# Altium footprint library VESC_6.4.1.PcbLib: 21 footprints (part 1 of 2)
Each footprint in its own frame and in the unit in brackets; x right, y up, seen from the top. Pads: shape width x height; smd on the part's side, far side on the other; paste and mask are expansions set on the pad; w line width, h text height; cw(c..) or ccw(c..) is an arc to the next point about the centre after c.
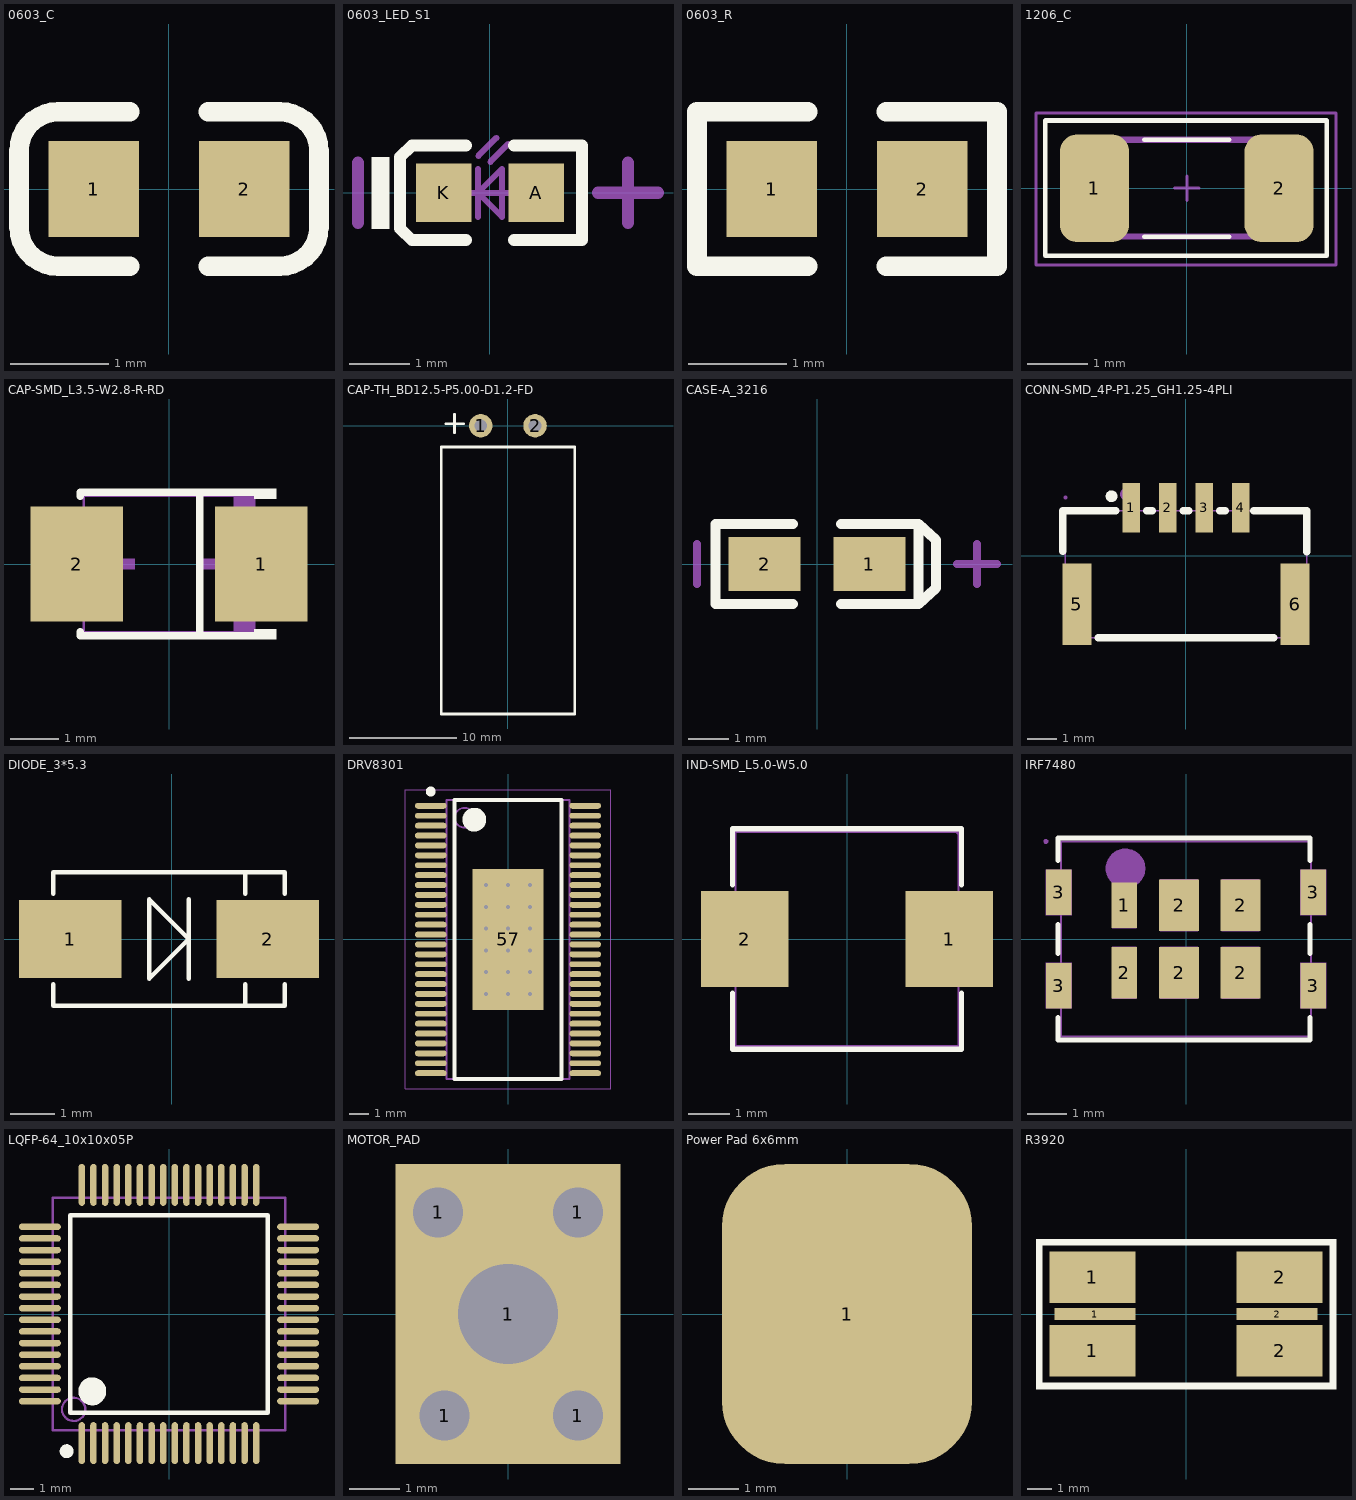
[diagram p0: the footprints below, top view; thin cyan lines are the x and y axes]

## 0603_C [mm]
pads (2):
  rect 0.93x0.98 smd: 1(-0.77,0) 2(0.77,0)
Top Overlay:
  lines w0.2: -0.4,-0.79 -1.135,-0.79 cw(c-1.135,-0.39) -1.535,-0.39 -1.535,0.39 cw(c-1.135,0.39) -1.135,0.79 -0.4,0.79 ; 0.4,-0.79 1.135,-0.79 ccw(c1.135,-0.39) 1.535,-0.39 1.535,0.39 ccw(c1.135,0.39) 1.135,0.79 0.4,0.79
3D body "User Library-0603 SMD Capacitor.STEP": height 0.3, standoff 0, extent -0.8,-0.4 0.8,0.4

## 0603_LED_S1 [mm]
pads (2):
  rect 0.93x0.98 smd: A(0.77,0) K(-0.77,0)
Top Overlay:
  rectangle: -1.975,-0.6 -1.675,0.6
  lines w0.2: -0.4,-0.79 -1.3,-0.79 -1.5,-0.597 -1.5,0.597 -1.3,0.79 -0.4,0.79 ; 0.4,-0.79 1.535,-0.79 1.535,0.79 0.4,0.79
Mechanical 13:
  lines w0.1: -0.4,0 0.4,0 ; -0.2,-0.4 -0.2,0.4 ; -0.195,0.617 0.105,0.917 ; 0.005,0.517 0.305,0.817 ; -0.2,0 0.2,-0.4 0.2,0.4 -0.2,0
Mechanical 15:
  lines w0.203: -2.2,-0.5 -2.2,0.5 ; 1.8,0 2.8,0 ; 2.3,-0.5 2.3,0.5
3D body "User Library-LED_0603_R.STEP": height 0.6, standoff 0, extent -0.8,-0.4 0.8,0.4

## 0603_R [mm]
pads (2):
  rect 0.93x0.98 smd: 1(-0.77,0) 2(0.77,0)
Top Overlay:
  lines w0.2: -0.4,-0.79 -1.535,-0.79 -1.535,0.79 -0.4,0.79 ; 0.4,-0.79 1.535,-0.79 1.535,0.79 0.4,0.79
3D body "User Library-RES_1609-0603.STEP": height 0.56, standoff 0, extent -0.85,-0.4 0.85,0.4

## 1206_C [mil] "Capacitor"
height 47.24
pads (2):
  rrect50% 45x70 smd: 1(-60,0) 2(60,0)
Top Overlay:
  lines w3: -27.56,-31.5 27.56,-31.5 ; -27.56,31.5 27.56,31.5 ; -92,-44 91,-44 91,44 -92,44 -92,-44
Mechanical 13:
  lines w3.94: -51.18,-31.5 -51.18,31.5 ; 51.18,-31.5 51.18,31.5 ; -62.99,-31.5 -62.99,31.5 62.99,31.5 62.99,-31.5 -62.99,-31.5
Mechanical 15:
  lines w1.97: -7.87,0 -0.01,0 ; 0,-7.87 0,7.87 ; -0.01,0 0,0 ; 0,0 7.87,0 ; 7.87,0 7.87,0 ; -98,-50 -98,49 97,49 97,-50 -98,-50
3D body: height 47.24, standoff 0, extent -51.16,-31.48 51.16,31.48
3D body: height 47.24, standoff 0, extent 51.2,-31.48 62.97,31.48
3D body: height 47.24, standoff 0, extent -62.97,-31.48 -51.2,31.48

## CAP-SMD_L3.5-W2.8-R-RD [mm] "100uf"
pads (2):
  rect 1.9x2.376 smd mask+0.051: 1(1.899,0) 2(-1.899,0)
Top Overlay:
  region: 1.75,1.552 1.75,1.34 2.207,1.34 2.207,1.552
  region: 1.75,-1.552 1.75,-1.34 2.207,-1.34 2.207,-1.552
  lines w0.152: -1.826,-1.391 -1.826,-1.476 1.826,-1.476 ; -1.826,1.391 -1.826,1.476 1.826,1.476 ; 0.635,-1.476 0.635,1.476
Mechanical 6:
  region: -1.54,-0.105 -1.54,0.105 -0.7,0.105 -0.7,-0.105
  region: 1.54,-0.105 1.54,0.105 0.7,0.105 0.7,-0.105
  region: 1.225,-0.7 1.225,0.7 1.015,0.7 1.015,-0.7
  region: 1.75,-1.4 1.75,-0.7 1.33,-0.7 1.33,-1.4
  region: 1.75,1.4 1.75,0.7 1.33,0.7 1.33,1.4
Mechanical 15:
  region: 1.81,1.4 1.81,1.425 1.775,1.46 1.725,1.46 1.69,1.425 1.69,1.4 1.69,1.375 1.725,1.34 1.775,1.34 1.81,1.375
  region: -1.75,-1.1 -1.75,1.1 -1.05,1.1 -1.05,-1.1
  region: 1.75,-1.1 1.75,1.1 1.05,1.1 1.05,-1.1
  lines w0.051: -1.75,-1.4 -1.75,1.4 1.75,1.4 1.75,-1.4 -1.75,-1.4
3D body "CASE-B-3528.STEP": height 1.95, standoff -0.05, extent -1.85,-1.4 1.85,1.4

## CAP-TH_BD12.5-P5.00-D1.2-FD [mm]
pads (2):
  round 2.2 hole 1.2: 1(-2.54,0) 2(2.54,0)
Top Overlay:
  lines w0.254: -5.817,0.178 -4.14,0.178 ; -5.004,-0.66 -5.004,1.067 ; -6.24,-27 -6.24,-2 6.26,-2 6.26,-27 -6.24,-27
3D body "User Library-CapAluRadial_D125H250.STEP": height 6.5, standoff -6.5, extent -6.5,-28.775 6.5,1.225

## CASE-A_3216 [mm]
pads (2):
  rect 1.8x1.35 smd: 1(1.31,0) 2(-1.31,0)
Top Overlay:
  lines w0.254: -0.6,-1.002 -2.537,-1.002 -2.537,1.002 -0.6,1.002 ; 0.6,-1.002 2.537,-1.002 ; 0.6,1.002 2.537,1.002 ; 2.537,-1.002 2.973,-0.6 2.973,0.6 2.537,1.002 ; 2.537,-1.002 2.537,1.002
Mechanical 15:
  lines w0.203: -3,-0.5 -3,0.5 ; 3.5,0 4.5,0 ; 4,-0.5 4,0.5
3D body "User Library-AVX_ACASE.STEP": height 1.71, standoff 0, extent -1.7,-0.84 1.7,0.84

## CONN-SMD_4P-P1.25_GH1.25-4PLI [mm]
pads (6):
  rect 0.6x1.7 smd: 1(-1.875,1.65) 2(-0.625,1.65) 3(0.625,1.65) 4(1.875,1.65)
  rect 1x2.8 smd: 5(-3.725,-1.65) 6(3.725,-1.65)
Top Overlay:
  circle w0.2: c-2.545,2.04 r0.1
  lines w0.254: -4.211,0.153 -4.211,1.55 -2.406,1.55 ; -2.994,-2.8 2.994,-2.8 ; -1.344,1.55 -1.156,1.55 ; -0.094,1.55 0.094,1.55 ; 1.156,1.55 1.344,1.55 ; 2.32,1.55 4.125,1.55 4.125,0.134
Mechanical 6:
  circle w0.2: c-2.052,2.109 r0.1
Mechanical 15:
  region: 1.775,2.15 1.975,2.15 1.975,1.3 1.775,1.3
  region: 3.625,-0.8 3.825,-0.8 3.825,-2.8 3.625,-2.8
  region: 0.525,2.15 0.725,2.15 0.725,1.3 0.525,1.3
  region: -3.825,-0.8 -3.625,-0.8 -3.625,-2.8 -3.825,-2.8
  region: -0.725,2.15 -0.525,2.15 -0.525,1.3 -0.725,1.3
  region: -1.975,2.15 -1.775,2.15 -1.775,1.3 -1.975,1.3
  region: -4.065,2 -4.065,1.975 -4.1,1.94 -4.149,1.94 -4.185,1.975 -4.185,2 -4.185,2.025 -4.149,2.06 -4.1,2.06 -4.065,2.025 -4.065,2
  lines w0.051: -4.125,-2.8 4.125,-2.8 4.125,1.55 -4.125,1.55 -4.125,-2.8
3D body "GH1.25 3D_PCB1_2025-11-11.step": height 4.03, standoff 0, extent -4.13,-2.657 4.17,2.283

## DIODE_3*5.3 [mm]
pads (2):
  rect 2.3x1.75 smd: 1(-2.286,0) 2(2.159,0)
Top Overlay:
  lines w0.1: -2.667,-1.016 -2.667,-1.5 2.54,-1.5 2.54,-1.016 ; -2.667,1.016 -2.667,1.5 2.54,1.5 2.54,1.016 ; 0.381,-0.889 0.381,0.889 ; 1.651,-1.5 1.651,-1.016 ; 1.651,1.016 1.651,1.5 ; -0.508,-0.889 -0.508,0.889 0.381,0 -0.508,-0.889
3D body "SMA(DO-214AC).STEP": height 2, standoff -0.1, extent -2.6,-1.4 2.6,1.4

## DRV8301 [mm]
pads (57):
  oval 1.6x0.3 smd: 1(-3.9,6.75) 2(-3.9,6.25) 3(-3.9,5.75) 4(-3.9,5.25) 5(-3.9,4.75) 6(-3.9,4.25) 7(-3.9,3.75) 8(-3.9,3.25) 9(-3.9,2.75) 10(-3.9,2.25) 11(-3.9,1.75) 12(-3.9,1.25) 13(-3.9,0.75) 14(-3.9,0.25) 15(-3.9,-0.25) 16(-3.9,-0.75) 17(-3.9,-1.25) 18(-3.9,-1.75) 19(-3.9,-2.25) 20(-3.9,-2.75) 21(-3.9,-3.25) 22(-3.9,-3.75) 23(-3.9,-4.25) 24(-3.9,-4.75) 25(-3.9,-5.25) 26(-3.9,-5.75) 27(-3.9,-6.25) 28(-3.9,-6.75) 29(3.9,-6.75) 30(3.9,-6.25) 31(3.9,-5.75) 32(3.9,-5.25) 33(3.9,-4.75) 34(3.9,-4.25) 35(3.9,-3.75) 36(3.9,-3.25) 37(3.9,-2.75) 38(3.9,-2.25) 39(3.9,-1.75) 40(3.9,-1.25) 41(3.9,-0.75) 42(3.9,-0.25) 43(3.9,0.25) 44(3.9,0.75) 45(3.9,1.25) 46(3.9,1.75) 47(3.9,2.25) 48(3.9,2.75) 49(3.9,3.25) 50(3.9,3.75) 51(3.9,4.25) 52(3.9,4.75) 53(3.9,5.25) 54(3.9,5.75) 55(3.9,6.25) 56(3.9,6.75)
  rect 3.61x7.11 smd: 57(0,0)
via 1.1,-2.75 diameter 0.5 hole 0.2
via 0,-2.75 diameter 0.5 hole 0.2
via -1.1,-2.75 diameter 0.5 hole 0.2
via 1.1,-1.65 diameter 0.5 hole 0.2
via 0,-1.65 diameter 0.5 hole 0.2
via -1.1,-1.65 diameter 0.5 hole 0.2
via 1.1,-0.55 diameter 0.5 hole 0.2
via 0,-0.55 diameter 0.5 hole 0.2
via -1.1,-0.55 diameter 0.5 hole 0.2
via 1.1,0.55 diameter 0.5 hole 0.2
via 0,0.55 diameter 0.5 hole 0.2
via -1.1,0.55 diameter 0.5 hole 0.2
via 1.1,1.65 diameter 0.5 hole 0.2
via 0,1.65 diameter 0.5 hole 0.2
via -1.1,1.65 diameter 0.5 hole 0.2
via 1.1,2.75 diameter 0.5 hole 0.2
via 0,2.75 diameter 0.5 hole 0.2
via -1.1,2.75 diameter 0.5 hole 0.2
Top Overlay:
  circle w0.6: c-1.7,6.05 r0.3
  circle w0.25: c-3.9,7.475 r0.125
  lines w0.2: -2.7,-7.05 2.7,-7.05 2.7,7.05 -2.7,7.05 -2.7,-7.05
Mechanical 13:
  circle w0.1: c-2.2,6.15 r0.5
  lines w0.1: -3.1,-7.05 3.1,-7.05 3.1,7.05 -3.1,7.05 -3.1,-7.05
Mechanical 15:
  lines w0.05: -5.2,-7.55 5.2,-7.55 5.2,7.55 -5.2,7.55 -5.2,-7.55
  lines w0.1: -0.5,0 0.5,0 ; 0,-0.5 0,0.5
3D body "DRV8301.step": height 1.2, standoff 0, extent -4.05,-7.05 4.05,7.05

## IND-SMD_L5.0-W5.0 [mm]
pads (2):
  rect 2.124x2.32 smd: 1(2.478,0) 2(-2.478,0)
Top Overlay:
  lines w0.127: -2.776,-1.312 -2.776,-2.676 2.776,-2.676 2.776,-1.312 ; -2.776,1.312 -2.776,2.676 2.776,2.676 2.776,1.312
Mechanical 15:
  region: 2.76,2.6 2.76,2.625 2.725,2.66 2.675,2.66 2.64,2.625 2.64,2.6 2.64,2.575 2.675,2.54 2.725,2.54 2.76,2.575
  region: 1.7,1 2.7,1 2.7,-1 1.7,-1
  region: -2.7,1 -1.7,1 -1.7,-1 -2.7,-1
  lines w0.051: -2.7,-2.6 -2.7,2.6 2.7,2.6 2.7,-2.6 -2.7,-2.6
3D body "inc.STEP": height 2.11, standoff -0.01, extent -2.524,-2.509 2.496,2.491

## IRF7480 [mm]
pads (10):
  rect 0.65x1.15 smd mask+0.051: 1(-1.555,0.85) 3(-3.205,-1.175) 3(-3.205,1.175) 3(3.205,-1.175) 3(3.205,1.175)
  rect 0.65x1.3 smd mask+0.051: 2(-1.555,-0.85)
  rect 1x1.3 smd mask+0.051: 2(-0.175,-0.85) 2(-0.175,0.85) 2(1.375,-0.85) 2(1.375,0.85)
Top Overlay:
  lines w0.127: -3.223,-1.981 -3.223,-2.54 3.127,-2.54 3.127,-1.981 ; -3.223,-0.369 -3.223,0.369 ; -3.223,1.981 -3.223,2.54 3.127,2.54 3.127,1.981 ; 3.127,-0.369 3.127,0.369
Mechanical 6:
  circle w0.5: c-1.524,1.778 r0.25
Mechanical 15:
  region: -1.855,1.425 -1.255,1.425 -1.255,0.275 -1.855,0.275
  region: -1.855,-0.2 -1.255,-0.2 -1.255,-1.5 -1.855,-1.5
  region: -0.65,-0.2 0.3,-0.2 0.3,-1.5 -0.65,-1.5
  region: 0.9,-0.2 1.85,-0.2 1.85,-1.5 0.9,-1.5
  region: 0.9,1.5 1.85,1.5 1.85,0.2 0.9,0.2
  region: -0.65,1.5 0.3,1.5 0.3,0.2 -0.65,0.2
  region: 2.88,1.75 3.53,1.75 3.53,0.6 2.88,0.6
  region: 2.88,-0.6 3.53,-0.6 3.53,-1.75 2.88,-1.75
  region: -3.53,-0.6 -2.88,-0.6 -2.88,-1.75 -3.53,-1.75
  region: -3.53,1.75 -2.88,1.75 -2.88,0.6 -3.53,0.6
  region: -3.47,2.46 -3.47,2.485 -3.505,2.52 -3.555,2.52 -3.59,2.485 -3.59,2.46 -3.59,2.435 -3.555,2.4 -3.505,2.4 -3.47,2.435
  lines w0.051: -3.15,-2.46 -3.15,2.46 3.15,2.46 3.15,-2.46 -3.15,-2.46
3D body "IRF7480.STEP": height 0.6, standoff -0.14, extent -3.15,-2.45 3.15,2.45

## LQFP-64_10x10x05P [mm]
pads (64):
  oval 0.28x1.8 smd mask+0.051: 1(-3.75,-5.55) 2(-3.25,-5.55) 3(-2.75,-5.55) 4(-2.25,-5.55) 5(-1.75,-5.55) 6(-1.25,-5.55) 7(-0.75,-5.55) 8(-0.25,-5.55) 9(0.25,-5.55) 10(0.75,-5.55) 11(1.25,-5.55) 12(1.75,-5.55) 13(2.25,-5.55) 14(2.75,-5.55) 15(3.25,-5.55) 16(3.75,-5.55) 33(3.75,5.55) 34(3.25,5.55) 35(2.75,5.55) 36(2.25,5.55) 37(1.75,5.55) 38(1.25,5.55) 39(0.75,5.55) 40(0.25,5.55) 41(-0.25,5.55) 42(-0.75,5.55) 43(-1.25,5.55) 44(-1.75,5.55) 45(-2.25,5.55) 46(-2.75,5.55) 47(-3.25,5.55) 48(-3.75,5.55)
  oval 1.8x0.28 smd mask+0.051: 17(5.55,-3.75) 18(5.55,-3.25) 19(5.55,-2.75) 20(5.55,-2.25) 21(5.55,-1.75) 22(5.55,-1.25) 23(5.55,-0.75) 24(5.55,-0.25) 25(5.55,0.25) 26(5.55,0.75) 27(5.55,1.25) 28(5.55,1.75) 29(5.55,2.25) 30(5.55,2.75) 31(5.55,3.25) 32(5.55,3.75) 49(-5.55,3.75) 50(-5.55,3.25) 51(-5.55,2.75) 52(-5.55,2.25) 53(-5.55,1.75) 54(-5.55,1.25) 55(-5.55,0.75) 56(-5.55,0.25) 57(-5.55,-0.25) 58(-5.55,-0.75) 59(-5.55,-1.25) 60(-5.55,-1.75) 61(-5.55,-2.25) 62(-5.55,-2.75) 63(-5.55,-3.25) 64(-5.55,-3.75)
Top Overlay:
  circle w0.6: c-3.3,-3.325 r0.3
  circle w0.3: c-4.4,-5.9 r0.15
  lines w0.2: -4.25,-4.25 -4.25,4.25 4.25,4.25 4.25,-4.25 -4.25,-4.25
Mechanical 13:
  circle w0.1: c-4.1,-4.1 r0.5
  lines w0.1: -5,-5 -5,5 5,5 5,-5 -5,-5
3D body "ST LQFP-64-10x10.STEP": height 1.6, standoff 0, extent -6.01,-6.01 6.01,6.01

## MOTOR_PAD [mil]
height 47.24
pads (5):
  round 60 hole 39.37: 1(-55,80) 1(-50,-80) 1(55,-80) 1(55,80)
  rect 177.17x236.22 hole 78.74: 1(0,0)

## Power Pad 6x6mm [mm]
pads (1):
  rrect50% 5x6 smd: 1(0,0)

## R3920 [mm]
pads (6):
  rect 3.5x2.1 smd: 1(-3.8,-1.5) 1(-3.8,1.5) 2(3.8,-1.5) 2(3.8,1.5)
  rect 3.3x0.5 smd: 1(-3.7,0) 2(3.7,0)
Top Overlay:
  region: -6.096,3.048 -6.096,-3.048 -5.842,-3.048 -5.842,3.048 6.096,3.048 6.096,2.794 -5.842,2.794 -5.842,3.048
  region: 6.096,3.048 6.096,-3.048 5.842,-3.048 5.842,2.794
  region: 5.842,-3.048 -5.842,-3.048 -5.842,-2.794 5.842,-2.794
3D body "User Library-LRMAP3920.STEP": height 2, standoff 0, extent -5.46,-2.769 5.46,2.751